# EAGLE library part 128CH-MODULE (library UsefulConnectors)
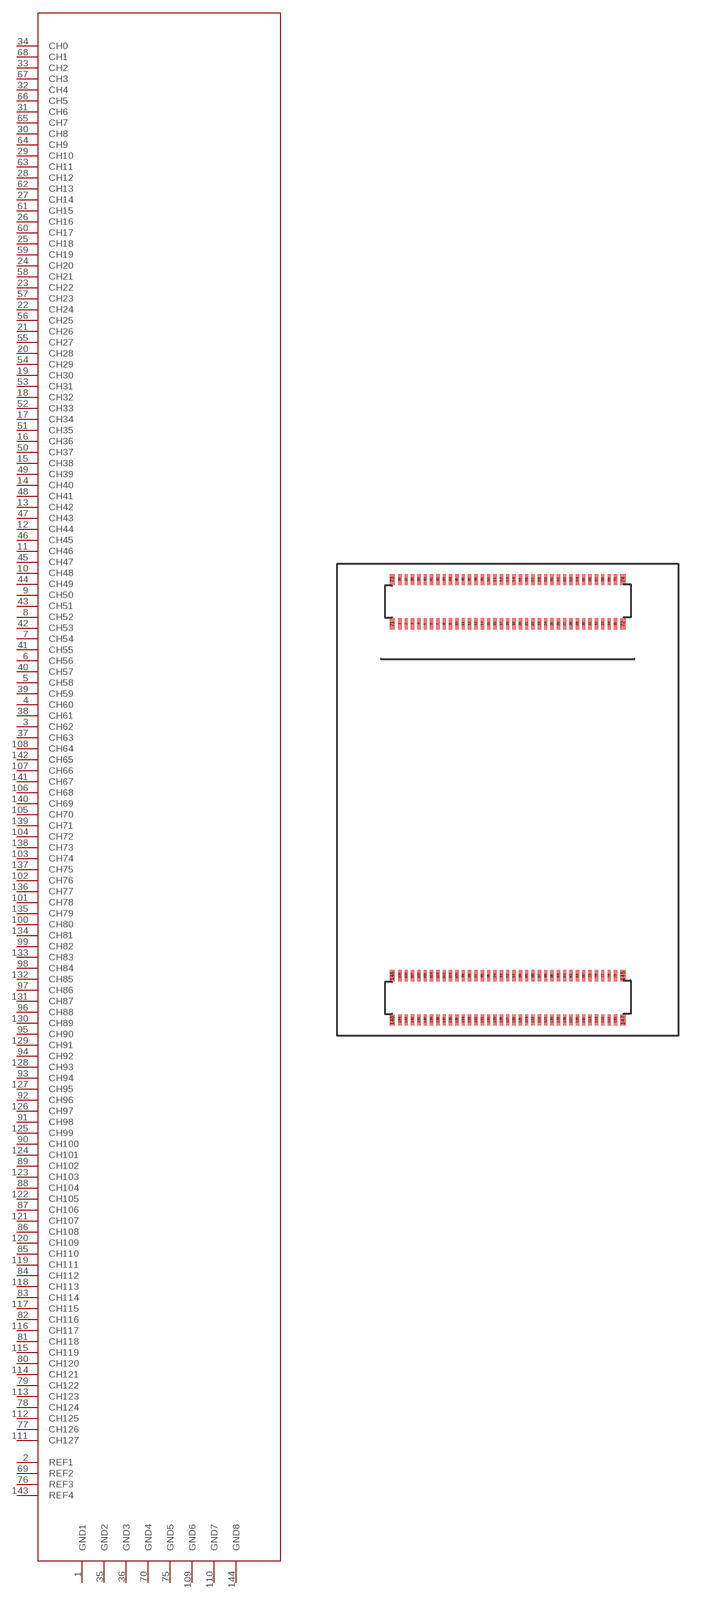
[diagram p5: symbol with the pads of 128CH-MODULE; footprint 128CH-MODULE]

Designator prefix -

## 128CH-MODULE  [128CH-MODULE]
1  GND1  pwr
2  REF1  in
3  CH62  in
4  CH60  in
5  CH58  in
6  CH56  in
7  CH54  in
8  CH52  in
9  CH50  in
10  CH48  in
11  CH46  in
12  CH44  in
13  CH42  in
14  CH40  in
15  CH38  in
16  CH36  in
17  CH34  in
18  CH32  in
19  CH30  in
20  CH28  in
21  CH26  in
22  CH24  in
23  CH22  in
24  CH20  in
25  CH18  in
26  CH16  in
27  CH14  in
28  CH12  in
29  CH10  in
30  CH8  in
31  CH6  in
32  CH4  in
33  CH2  in
34  CH0  in
35  GND2  pwr
36  GND3  pwr
37  CH63  in
38  CH61  in
39  CH59  in
40  CH57  in
41  CH55  in
42  CH53  in
43  CH51  in
44  CH49  in
45  CH47  in
46  CH45  in
47  CH43  in
48  CH41  in
49  CH39  in
50  CH37  in
51  CH35  in
52  CH33  in
53  CH31  in
54  CH29  in
55  CH27  in
56  CH25  in
57  CH23  in
58  CH21  in
59  CH19  in
60  CH17  in
61  CH15  in
62  CH13  in
63  CH11  in
64  CH9  in
65  CH7  in
66  CH5  in
67  CH3  in
68  CH1  in
69  REF2  in
70  GND4  pwr
75  GND5  pwr
76  REF3  in
77  CH126  in
78  CH124  in
79  CH122  in
80  CH120  in
81  CH118  in
82  CH116  in
83  CH114  in
84  CH112  in
85  CH110  in
86  CH108  in
87  CH106  in
88  CH104  in
89  CH102  in
90  CH100  in
91  CH98  in
92  CH96  in
93  CH94  in
94  CH92  in
95  CH90  in
96  CH88  in
97  CH86  in
98  CH84  in
99  CH82  in
100  CH80  in
101  CH78  in
102  CH76  in
103  CH74  in
104  CH72  in
105  CH70  in
106  CH68  in
107  CH66  in
108  CH64  in
109  GND6  pwr
110  GND7  pwr
111  CH127  in
112  CH125  in
113  CH123  in
114  CH121  in
115  CH119  in
116  CH117  in
117  CH115  in
118  CH113  in
119  CH111  in
120  CH109  in
121  CH107  in
122  CH105  in
123  CH103  in
124  CH101  in
125  CH99  in
126  CH97  in
127  CH95  in
128  CH93  in
129  CH91  in
130  CH89  in
131  CH87  in
132  CH85  in
133  CH83  in
134  CH81  in
135  CH79  in
136  CH77  in
137  CH75  in
138  CH73  in
139  CH71  in
140  CH69  in
141  CH67  in
142  CH65  in
143  REF4  in
144  GND8  pwr

## Footprint 128CH-MODULE (pad centres in mm)
smd 0.21 x 0.7: 1 -6.8,11.1; 2 -6.4,11.1; 3 -6,11.1; 4 -5.6,11.1; 5 -5.2,11.1; 6 -4.8,11.1; 7 -4.4,11.1; 8 -4,11.1; 9 -3.6,11.1; 10 -3.2,11.1; 11 -2.8,11.1; 12 -2.4,11.1; 13 -2,11.1; 14 -1.6,11.1; 15 -1.2,11.1; 16 -0.8,11.1; 17 -0.4,11.1; 18 0,11.1; 19 0.4,11.1; 20 0.8,11.1; 21 1.2,11.1; 22 1.6,11.1; 23 2,11.1; 24 2.4,11.1; 25 2.8,11.1; 26 3.2,11.1; 27 3.6,11.1; 28 4,11.1; 29 4.4,11.1; 30 4.8,11.1; 31 5.2,11.1; 32 5.6,11.1; 33 6,11.1; 34 6.4,11.1; 35 6.8,11.1; 36 -6.8,13.9; 37 -6.4,13.9; 38 -6,13.9; 39 -5.6,13.9; 40 -5.2,13.9; 41 -4.8,13.9; 42 -4.4,13.9; 43 -4,13.9; 44 -3.6,13.9; 45 -3.2,13.9; 46 -2.8,13.9; 47 -2.4,13.9; 48 -2,13.9; 49 -1.6,13.9; 50 -1.2,13.9; 51 -0.8,13.9; 52 -0.4,13.9; 53 0,13.9; 54 0.4,13.9; 55 0.8,13.9; 56 1.2,13.9; 57 1.6,13.9; 58 2,13.9; 59 2.4,13.9; 60 2.8,13.9; 61 3.2,13.9; 62 3.6,13.9; 63 4,13.9; 64 4.4,13.9; 65 4.8,13.9; 66 5.2,13.9; 67 5.6,13.9; 68 6,13.9; 69 6.4,13.9; 70 6.8,13.9; 75 6.8,-11.1; 76 6.4,-11.1; 77 6,-11.1; 78 5.6,-11.1; 79 5.2,-11.1; 80 4.8,-11.1; 81 4.4,-11.1; 82 4,-11.1; 83 3.6,-11.1; 84 3.2,-11.1; 85 2.8,-11.1; 86 2.4,-11.1; 87 2,-11.1; 88 1.6,-11.1; 89 1.2,-11.1; 90 0.8,-11.1; 91 0.4,-11.1; 92 0,-11.1; 93 -0.4,-11.1; 94 -0.8,-11.1; 95 -1.2,-11.1; 96 -1.6,-11.1; 97 -2,-11.1; 98 -2.4,-11.1; 99 -2.8,-11.1; 100 -3.2,-11.1; 101 -3.6,-11.1; 102 -4,-11.1; 103 -4.4,-11.1; 104 -4.8,-11.1; 105 -5.2,-11.1; 106 -5.6,-11.1; 107 -6,-11.1; 108 -6.4,-11.1; 109 -6.8,-11.1; 110 6.8,-13.9; 111 6.4,-13.9; 112 6,-13.9; 113 5.6,-13.9; 114 5.2,-13.9; 115 4.8,-13.9; 116 4.4,-13.9; 117 4,-13.9; 118 3.6,-13.9; 119 3.2,-13.9; 120 2.8,-13.9; 121 2.4,-13.9; 122 2,-13.9; 123 1.6,-13.9; 124 1.2,-13.9; 125 0.8,-13.9; 126 0.4,-13.9; 127 0,-13.9; 128 -0.4,-13.9; 129 -0.8,-13.9; 130 -1.2,-13.9; 131 -1.6,-13.9; 132 -2,-13.9; 133 -2.4,-13.9; 134 -2.8,-13.9; 135 -3.2,-13.9; 136 -3.6,-13.9; 137 -4,-13.9; 138 -4.4,-13.9; 139 -4.8,-13.9; 140 -5.2,-13.9; 141 -5.6,-13.9; 142 -6,-13.9; 143 -6.4,-13.9; 144 -6.8,-13.9
smd 0.33 x 0.7: 71 -7.275,11.1; 72 7.275,11.1; 73 -7.275,13.9; 74 7.275,13.9; 145 7.275,-11.1; 146 -7.275,-11.1; 147 7.275,-13.9; 148 -7.275,-13.9